# Altium footprint library QFN_Sq_40P_Side_V.PcbLib: 4 footprints
Each footprint in its own frame and in the unit in brackets; x right, y up, seen from the top. Pads: shape width x height; smd on the part's side, far side on the other; paste and mask are expansions set on the pad; w line width, h text height; cw(c..) or ccw(c..) is an arc to the next point about the centre after c.
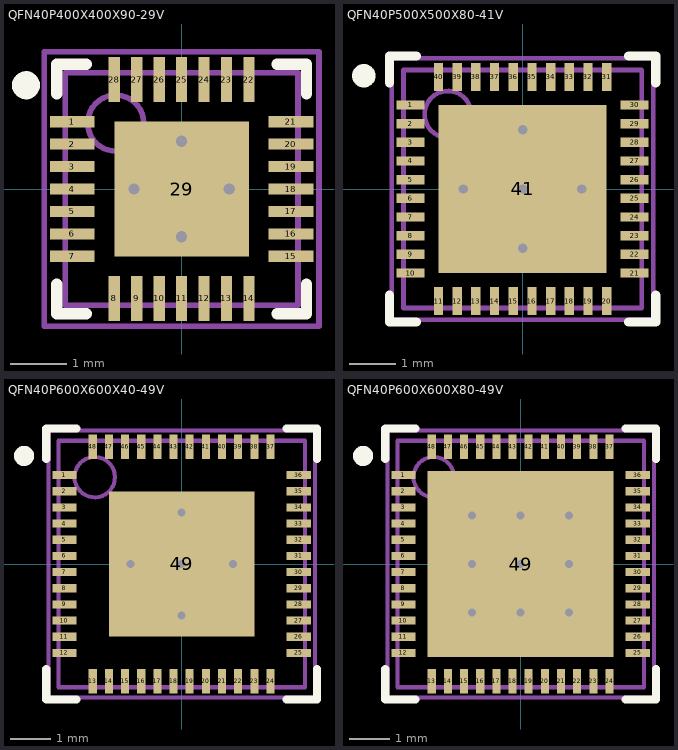
[diagram p0: the footprints below, top view; thin cyan lines are the x and y axes]

## QFN40P400X400X90-29V [mm] "QFN, 28-Leads, Body 4x4 mm, Pitch 0.4mm, Microchip Recommended"
height 0.9
pads (29):
  rect 0.8x0.2 smd: 1(-1.95,1.2) 2(-1.95,0.8) 3(-1.95,0.4) 4(-1.95,0) 5(-1.95,-0.4) 6(-1.95,-0.8) 7(-1.95,-1.2) 15(1.95,-1.2) 16(1.95,-0.8) 17(1.95,-0.4) 18(1.95,0) 19(1.95,0.4) 20(1.95,0.8) 21(1.95,1.2)
  rect 0.2x0.8 smd: 8(-1.2,-1.95) 9(-0.8,-1.95) 10(-0.4,-1.95) 11(0,-1.95) 12(0.4,-1.95) 13(0.8,-1.95) 14(1.2,-1.95) 22(1.2,1.95) 23(0.8,1.95) 24(0.4,1.95) 25(0,1.95) 26(-0.4,1.95) 27(-0.8,1.95) 28(-1.2,1.95)
  rect 2.4x2.4 smd paste-1.2: 29(0,0)
via 0,-0.85 diameter 0.5 hole 0.2
via 0,0.85 diameter 0.5 hole 0.2
via -0.85,0 diameter 0.5 hole 0.2
via 0.85,0 diameter 0.5 hole 0.2
Top Overlay:
  circle w0.25: c-2.775,1.85 r0.125
  lines w0.2: -2.225,-1.7 -2.225,-2.225 -1.7,-2.225 ; -2.225,1.7 -2.225,2.225 -1.7,2.225 ; 1.7,-2.225 2.225,-2.225 2.225,-1.7 ; 1.7,2.225 2.225,2.225 2.225,1.7
Top Paste:
  rectangle: 0.15,0.15 1.1,1.1
  region: -0.15,0.15 -0.15,1.1 -1.1,1.1 -1.1,0.15
  region: -0.15,-0.15 -1.1,-0.15 -1.1,-1.1 -0.15,-1.1
  region: 0.15,-0.15 0.15,-1.1 1.1,-1.1 1.1,-0.15
Mechanical 13:
  circle w0.1: c-1.175,1.175 r0.5
  lines w0.1: -2.075,-2.075 -2.075,2.075 2.075,2.075 2.075,-2.075 -2.075,-2.075
Mechanical 15:
  lines w0.1: -2.45,-2.45 -2.45,2.45 2.45,2.45 2.45,-2.45 -2.45,-2.45 ; -0.5,0 0.5,0 -0.5,0 ; 0,-0.5 0,0.5 0,-0.5
3D body: height 0.9, standoff 0, extent -2.074,-2.074 2.074,2.074

## QFN40P500X500X80-41V [mm] "QFN, 40-Leads, Body 5x5 mm, Pitch 0.4mm, NSC Recommended"
height 0.8
pads (41):
  rect 0.6x0.2 smd paste-0.125 mask+0.051: 1(-2.4,1.8) 2(-2.4,1.4) 3(-2.4,1) 4(-2.4,0.6) 5(-2.4,0.2) 6(-2.4,-0.2) 7(-2.4,-0.6) 8(-2.4,-1) 9(-2.4,-1.4) 10(-2.4,-1.8) 21(2.4,-1.8) 22(2.4,-1.4) 23(2.4,-1) 24(2.4,-0.6) 25(2.4,-0.2) 26(2.4,0.2) 27(2.4,0.6) 28(2.4,1) 29(2.4,1.4) 30(2.4,1.8)
  rect 0.2x0.6 smd paste-0.125 mask+0.051: 11(-1.8,-2.4) 12(-1.4,-2.4) 13(-1,-2.4) 14(-0.6,-2.4) 15(-0.2,-2.4) 16(0.2,-2.4) 17(0.6,-2.4) 18(1,-2.4) 19(1.4,-2.4) 20(1.8,-2.4) 31(1.8,2.4) 32(1.4,2.4) 33(1,2.4) 34(0.6,2.4) 35(0.2,2.4) 36(-0.2,2.4) 37(-0.6,2.4) 38(-1,2.4) 39(-1.4,2.4) 40(-1.8,2.4)
  rect 3.6x3.6 smd paste-1.8 mask+0.051: 41(0,0)
via 0,0 diameter 0.5 hole 0.2
via 0,1.27 diameter 0.5 hole 0.2
via -1.27,0 diameter 0.5 hole 0.2
via 0,-1.27 diameter 0.5 hole 0.2
via 1.27,0 diameter 0.5 hole 0.2
Top Overlay:
  circle w0.25: c-3.4,2.425 r0.125
  lines w0.2: -2.85,-2.275 -2.85,-2.85 -2.275,-2.85 ; -2.85,2.275 -2.85,2.85 -2.275,2.85 ; 2.275,-2.85 2.85,-2.85 2.85,-2.275 ; 2.275,2.85 2.85,2.85 2.85,2.275
Top Paste:
  rectangle: 0.1,-1.6 1.6,-0.1
  region: -0.1,-0.1 -1.6,-0.1 -1.6,-1.6 -0.1,-1.6
  region: -0.1,1.6 -1.6,1.6 -1.6,0.1 -0.1,0.1
  rectangle: 0.1,0.1 1.6,1.6
  region: 1.7,2.9 1.7,2.2 1.9,2.2 1.9,2.9
  region: 1.3,2.9 1.3,2.2 1.5,2.2 1.5,2.9
  region: 0.5,2.9 0.5,2.2 0.7,2.2 0.7,2.9
  region: 0.9,2.9 0.9,2.2 1.1,2.2 1.1,2.9
  region: -1.9,2.9 -1.9,2.2 -1.7,2.2 -1.7,2.9
  region: -1.1,2.9 -1.1,2.2 -0.9,2.2 -0.9,2.9
  region: -1.5,2.9 -1.5,2.2 -1.3,2.2 -1.3,2.9
  region: -0.7,2.9 -0.7,2.2 -0.5,2.2 -0.5,2.9
  region: -0.3,2.9 -0.3,2.2 -0.1,2.2 -0.1,2.9
  region: 0.1,2.9 0.1,2.2 0.3,2.2 0.3,2.9
  region: 0.3,-2.9 0.3,-2.2 0.1,-2.2 0.1,-2.9
  region: -0.1,-2.9 -0.1,-2.2 -0.3,-2.2 -0.3,-2.9
  region: -0.5,-2.9 -0.5,-2.2 -0.7,-2.2 -0.7,-2.9
  region: -1.3,-2.9 -1.3,-2.2 -1.5,-2.2 -1.5,-2.9
  region: -0.9,-2.9 -0.9,-2.2 -1.1,-2.2 -1.1,-2.9
  region: -1.7,-2.9 -1.7,-2.2 -1.9,-2.2 -1.9,-2.9
  region: 1.1,-2.9 1.1,-2.2 0.9,-2.2 0.9,-2.9
  region: 0.7,-2.9 0.7,-2.2 0.5,-2.2 0.5,-2.9
  region: 1.5,-2.9 1.5,-2.2 1.3,-2.2 1.3,-2.9
  region: 1.9,-2.9 1.9,-2.2 1.7,-2.2 1.7,-2.9
  rectangle: -2.9,-1.9 -2.2,-1.7
  rectangle: -2.9,-1.5 -2.2,-1.3
  rectangle: -2.9,-0.7 -2.2,-0.5
  rectangle: -2.9,-1.1 -2.2,-0.9
  rectangle: -2.9,1.7 -2.2,1.9
  rectangle: -2.9,0.9 -2.2,1.1
  rectangle: -2.9,1.3 -2.2,1.5
  rectangle: -2.9,0.5 -2.2,0.7
  rectangle: -2.9,0.1 -2.2,0.3
  rectangle: -2.9,-0.3 -2.2,-0.1
  region: 2.9,-0.1 2.2,-0.1 2.2,-0.3 2.9,-0.3
  region: 2.9,0.3 2.2,0.3 2.2,0.1 2.9,0.1
  region: 2.9,0.7 2.2,0.7 2.2,0.5 2.9,0.5
  region: 2.9,1.5 2.2,1.5 2.2,1.3 2.9,1.3
  region: 2.9,1.1 2.2,1.1 2.2,0.9 2.9,0.9
  region: 2.9,1.9 2.2,1.9 2.2,1.7 2.9,1.7
  region: 2.9,-0.9 2.2,-0.9 2.2,-1.1 2.9,-1.1
  region: 2.9,-0.5 2.2,-0.5 2.2,-0.7 2.9,-0.7
  region: 2.9,-1.3 2.2,-1.3 2.2,-1.5 2.9,-1.5
  region: 2.9,-1.7 2.2,-1.7 2.2,-1.9 2.9,-1.9
Mechanical 13:
  circle w0.1: c-1.6,1.6 r0.5
  lines w0.1: -2.55,-2.55 -2.55,2.55 2.55,2.55 2.55,-2.55 -2.55,-2.55
Mechanical 15:
  lines w0.1: -0.5,0 0.5,0 ; 0,-0.5 0,0.5 ; -2.8,-2.8 2.8,-2.8 2.8,2.8 -2.8,2.8 -2.8,-2.8
3D body: height 0.8, standoff 0, extent -2.55,-2.55 2.55,2.55

## QFN40P600X600X40-49V [mm] "QFN, 48-Leads, Body 6x6 mm, Pitch 0.4mm, NSC Recommended"
height 0.4
pads (49):
  rect 0.6x0.2 smd paste-0.125 mask+0.051: 1(-2.9,2.2) 2(-2.9,1.8) 3(-2.9,1.4) 4(-2.9,1) 5(-2.9,0.6) 6(-2.9,0.2) 7(-2.9,-0.2) 8(-2.9,-0.6) 9(-2.9,-1) 10(-2.9,-1.4) 11(-2.9,-1.8) 12(-2.9,-2.2) 25(2.9,-2.2) 26(2.9,-1.8) 27(2.9,-1.4) 28(2.9,-1) 29(2.9,-0.6) 30(2.9,-0.2) 31(2.9,0.2) 32(2.9,0.6) 33(2.9,1) 34(2.9,1.4) 35(2.9,1.8) 36(2.9,2.2)
  rect 0.2x0.6 smd paste-0.125 mask+0.051: 13(-2.2,-2.9) 14(-1.8,-2.9) 15(-1.4,-2.9) 16(-1,-2.9) 17(-0.6,-2.9) 18(-0.2,-2.9) 19(0.2,-2.9) 20(0.6,-2.9) 21(1,-2.9) 22(1.4,-2.9) 23(1.8,-2.9) 24(2.2,-2.9) 37(2.2,2.9) 38(1.8,2.9) 39(1.4,2.9) 40(1,2.9) 41(0.6,2.9) 42(0.2,2.9) 43(-0.2,2.9) 44(-0.6,2.9) 45(-1,2.9) 46(-1.4,2.9) 47(-1.8,2.9) 48(-2.2,2.9)
  rect 3.6x3.6 smd paste-1.8 mask+0.051: 49(0,0)
via 1.27,0 diameter 0.5 hole 0.2
via 0,-1.27 diameter 0.5 hole 0.2
via -1.27,0 diameter 0.5 hole 0.2
via 0,1.27 diameter 0.5 hole 0.2
via 0,0 diameter 0.5 hole 0.2
Top Overlay:
  circle w0.25: c-3.9,2.675 r0.125
  lines w0.2: -3.35,-2.6 -3.35,-3.35 -2.6,-3.35 ; -3.35,2.6 -3.35,3.35 -2.6,3.35 ; 2.6,-3.35 3.35,-3.35 3.35,-2.6 ; 2.6,3.35 3.35,3.35 3.35,2.6
Top Paste:
  rectangle: 0.1,0.1 1.6,1.6
  region: -0.1,1.6 -1.6,1.6 -1.6,0.1 -0.1,0.1
  region: -0.1,-0.1 -1.6,-0.1 -1.6,-1.6 -0.1,-1.6
  rectangle: 0.1,-1.6 1.6,-0.1
  rectangle: -3.4,2.1 -2.7,2.3
  rectangle: -3.4,1.7 -2.7,1.9
  rectangle: -3.4,1.3 -2.7,1.5
  rectangle: -3.4,0.9 -2.7,1.1
  rectangle: -3.4,0.5 -2.7,0.7
  rectangle: -3.4,0.1 -2.7,0.3
  rectangle: -3.4,-2.3 -2.7,-2.1
  rectangle: -3.4,-1.9 -2.7,-1.7
  rectangle: -3.4,-1.5 -2.7,-1.3
  rectangle: -3.4,-1.1 -2.7,-0.9
  rectangle: -3.4,-0.7 -2.7,-0.5
  rectangle: -3.4,-0.3 -2.7,-0.1
  region: 0.3,-3.4 0.3,-2.7 0.1,-2.7 0.1,-3.4
  region: 0.7,-3.4 0.7,-2.7 0.5,-2.7 0.5,-3.4
  region: 1.1,-3.4 1.1,-2.7 0.9,-2.7 0.9,-3.4
  region: 1.5,-3.4 1.5,-2.7 1.3,-2.7 1.3,-3.4
  region: 1.9,-3.4 1.9,-2.7 1.7,-2.7 1.7,-3.4
  region: 2.3,-3.4 2.3,-2.7 2.1,-2.7 2.1,-3.4
  region: -0.1,-3.4 -0.1,-2.7 -0.3,-2.7 -0.3,-3.4
  region: -0.5,-3.4 -0.5,-2.7 -0.7,-2.7 -0.7,-3.4
  region: -0.9,-3.4 -0.9,-2.7 -1.1,-2.7 -1.1,-3.4
  region: -1.3,-3.4 -1.3,-2.7 -1.5,-2.7 -1.5,-3.4
  region: -1.7,-3.4 -1.7,-2.7 -1.9,-2.7 -1.9,-3.4
  region: -2.1,-3.4 -2.1,-2.7 -2.3,-2.7 -2.3,-3.4
  region: 3.4,0.3 2.7,0.3 2.7,0.1 3.4,0.1
  region: 3.4,0.7 2.7,0.7 2.7,0.5 3.4,0.5
  region: 3.4,1.1 2.7,1.1 2.7,0.9 3.4,0.9
  region: 3.4,1.5 2.7,1.5 2.7,0.1 3.4,0.1
  region: 3.4,1.9 2.7,1.9 2.7,1.7 3.4,1.7
  region: 3.4,2.3 2.7,2.3 2.7,2.1 3.4,2.1
  region: 3.4,-0.1 2.7,-0.1 2.7,-0.3 3.4,-0.3
  region: 3.4,-0.5 2.7,-0.5 2.7,-0.7 3.4,-0.7
  region: 3.4,-0.9 2.7,-0.9 2.7,-1.1 3.4,-1.1
  region: 3.4,-1.3 2.7,-1.3 2.7,-1.5 3.4,-1.5
  region: 3.4,-1.7 2.7,-1.7 2.7,-1.9 3.4,-1.9
  region: 3.4,-2.1 2.7,-2.1 2.7,-2.3 3.4,-2.3
  region: -0.3,3.4 -0.3,2.7 -0.1,2.7 -0.1,3.4
  region: -0.7,3.4 -0.7,2.7 -0.5,2.7 -0.5,3.4
  region: -1.1,3.4 -1.1,2.7 -0.9,2.7 -0.9,3.4
  region: -1.5,3.4 -1.5,2.7 -1.3,2.7 -1.3,3.4
  region: -1.9,3.4 -1.9,2.7 -1.7,2.7 -1.7,3.4
  region: -2.3,3.4 -2.3,2.7 -2.1,2.7 -2.1,3.4
  region: 0.1,3.4 0.1,2.7 0.3,2.7 0.3,3.4
  region: 0.5,3.4 0.5,2.7 0.7,2.7 0.7,3.4
  region: 0.9,3.4 0.9,2.7 1.1,2.7 1.1,3.4
  region: 1.3,3.4 1.3,2.7 1.5,2.7 1.5,3.4
  region: 1.7,3.4 1.7,2.7 1.9,2.7 1.9,3.4
  region: 2.1,3.4 2.1,2.7 2.3,2.7 2.3,3.4
Mechanical 13:
  circle w0.1: c-2.15,2.15 r0.5
  lines w0.1: -3.05,-3.05 3.05,-3.05 3.05,3.05 -3.05,3.05 -3.05,-3.05
Mechanical 15:
  lines w0.1: -0.5,0 0.5,0 ; 0,-0.5 0,0.5 ; -3.3,-3.3 3.3,-3.3 3.3,3.3 -3.3,3.3 -3.3,-3.3
3D body: height 0.4, standoff 0, extent -3.049,-3.049 3.049,3.049

## QFN40P600X600X80-49V [mm] "QFN, 48-Leads, Body 6x6 mm, Pitch 0.4mm, NSC Recommended"
height 0.8
pads (49):
  rect 0.6x0.2 smd paste-0.125 mask+0.051: 1(-2.9,2.2) 2(-2.9,1.8) 3(-2.9,1.4) 4(-2.9,1) 5(-2.9,0.6) 6(-2.9,0.2) 7(-2.9,-0.2) 8(-2.9,-0.6) 9(-2.9,-1) 10(-2.9,-1.4) 11(-2.9,-1.8) 12(-2.9,-2.2) 25(2.9,-2.2) 26(2.9,-1.8) 27(2.9,-1.4) 28(2.9,-1) 29(2.9,-0.6) 30(2.9,-0.2) 31(2.9,0.2) 32(2.9,0.6) 33(2.9,1) 34(2.9,1.4) 35(2.9,1.8) 36(2.9,2.2)
  rect 0.2x0.6 smd paste-0.125 mask+0.051: 13(-2.2,-2.9) 14(-1.8,-2.9) 15(-1.4,-2.9) 16(-1,-2.9) 17(-0.6,-2.9) 18(-0.2,-2.9) 19(0.2,-2.9) 20(0.6,-2.9) 21(1,-2.9) 22(1.4,-2.9) 23(1.8,-2.9) 24(2.2,-2.9) 37(2.2,2.9) 38(1.8,2.9) 39(1.4,2.9) 40(1,2.9) 41(0.6,2.9) 42(0.2,2.9) 43(-0.2,2.9) 44(-0.6,2.9) 45(-1,2.9) 46(-1.4,2.9) 47(-1.8,2.9) 48(-2.2,2.9)
  rect 4.6x4.6 smd paste-2.3 mask+0.051: 49(0,0)
via 1.2,0 diameter 0.5 hole 0.2
via -1.2,0 diameter 0.5 hole 0.2
via 0,0 diameter 0.5 hole 0.2
via 0,-1.2 diameter 0.5 hole 0.2
via -1.2,-1.2 diameter 0.5 hole 0.2
via 1.2,-1.2 diameter 0.5 hole 0.2
via 0,1.2 diameter 0.5 hole 0.2
via -1.2,1.2 diameter 0.5 hole 0.2
via 1.2,1.2 diameter 0.5 hole 0.2
Top Overlay:
  circle w0.25: c-3.9,2.675 r0.125
  lines w0.2: -3.35,-2.6 -3.35,-3.35 -2.6,-3.35 ; -3.35,2.6 -3.35,3.35 -2.6,3.35 ; 2.6,-3.35 3.35,-3.35 3.35,-2.6 ; 2.6,3.35 3.35,3.35 3.35,2.6
Top Paste:
  rectangle: 0.1,0.1 1.1,1.1
  rectangle: 1.3,1.3 2.3,2.3
  rectangle: 1.3,0.1 2.3,1.1
  rectangle: 0.1,1.3 1.1,2.3
  region: -0.1,2.3 -1.1,2.3 -1.1,1.3 -0.1,1.3
  region: -1.3,1.1 -2.3,1.1 -2.3,0.1 -1.3,0.1
  region: -1.3,2.3 -2.3,2.3 -2.3,1.3 -1.3,1.3
  region: -0.1,1.1 -1.1,1.1 -1.1,0.1 -0.1,0.1
  region: -0.1,-1.3 -1.1,-1.3 -1.1,-2.3 -0.1,-2.3
  region: -1.3,-0.1 -2.3,-0.1 -2.3,-1.1 -1.3,-1.1
  region: -1.3,-1.3 -2.3,-1.3 -2.3,-2.3 -1.3,-2.3
  region: -0.1,-0.1 -1.1,-0.1 -1.1,-1.1 -0.1,-1.1
  rectangle: 0.1,-2.3 1.1,-1.3
  rectangle: 1.3,-1.1 2.3,-0.1
  rectangle: 1.3,-2.3 2.3,-1.3
  rectangle: 0.1,-1.1 1.1,-0.1
  region: 2.1,3.4 2.1,2.7 2.3,2.7 2.3,3.4
  region: 1.7,3.4 1.7,2.7 1.9,2.7 1.9,3.4
  region: 1.3,3.4 1.3,2.7 1.5,2.7 1.5,3.4
  region: 0.9,3.4 0.9,2.7 1.1,2.7 1.1,3.4
  region: 0.5,3.4 0.5,2.7 0.7,2.7 0.7,3.4
  region: 0.1,3.4 0.1,2.7 0.3,2.7 0.3,3.4
  region: -2.3,3.4 -2.3,2.7 -2.1,2.7 -2.1,3.4
  region: -1.9,3.4 -1.9,2.7 -1.7,2.7 -1.7,3.4
  region: -1.5,3.4 -1.5,2.7 -1.3,2.7 -1.3,3.4
  region: -1.1,3.4 -1.1,2.7 -0.9,2.7 -0.9,3.4
  region: -0.7,3.4 -0.7,2.7 -0.5,2.7 -0.5,3.4
  region: -0.3,3.4 -0.3,2.7 -0.1,2.7 -0.1,3.4
  region: 3.4,-2.1 2.7,-2.1 2.7,-2.3 3.4,-2.3
  region: 3.4,-1.7 2.7,-1.7 2.7,-1.9 3.4,-1.9
  region: 3.4,-1.3 2.7,-1.3 2.7,-1.5 3.4,-1.5
  region: 3.4,-0.9 2.7,-0.9 2.7,-1.1 3.4,-1.1
  region: 3.4,-0.5 2.7,-0.5 2.7,-0.7 3.4,-0.7
  region: 3.4,-0.1 2.7,-0.1 2.7,-0.3 3.4,-0.3
  region: 3.4,2.3 2.7,2.3 2.7,2.1 3.4,2.1
  region: 3.4,1.9 2.7,1.9 2.7,1.7 3.4,1.7
  region: 3.4,1.5 2.7,1.5 2.7,1.3 3.4,1.3
  region: 3.4,1.1 2.7,1.1 2.7,0.9 3.4,0.9
  region: 3.4,0.7 2.7,0.7 2.7,0.5 3.4,0.5
  region: 3.4,0.3 2.7,0.3 2.7,0.1 3.4,0.1
  region: -2.1,-3.4 -2.1,-2.7 -2.3,-2.7 -2.3,-3.4
  region: -1.7,-3.4 -1.7,-2.7 -1.9,-2.7 -1.9,-3.4
  region: -1.3,-3.4 -1.3,-2.7 -1.5,-2.7 -1.5,-3.4
  region: -0.9,-3.4 -0.9,-2.7 -1.1,-2.7 -1.1,-3.4
  region: -0.5,-3.4 -0.5,-2.7 -0.7,-2.7 -0.7,-3.4
  region: -0.1,-3.4 -0.1,-2.7 -0.3,-2.7 -0.3,-3.4
  region: 2.3,-3.4 2.3,-2.7 2.1,-2.7 2.1,-3.4
  region: 1.9,-3.4 1.9,-2.7 1.7,-2.7 1.7,-3.4
  region: 1.5,-3.4 1.5,-2.7 1.3,-2.7 1.3,-3.4
  region: 1.1,-3.4 1.1,-2.7 0.9,-2.7 0.9,-3.4
  region: 0.7,-3.4 0.7,-2.7 0.5,-2.7 0.5,-3.4
  region: 0.3,-3.4 0.3,-2.7 0.1,-2.7 0.1,-3.4
  rectangle: -3.4,-0.3 -2.7,-0.1
  rectangle: -3.4,-0.7 -2.7,-0.5
  rectangle: -3.4,-1.1 -2.7,-0.9
  rectangle: -3.4,-1.5 -2.7,-1.3
  rectangle: -3.4,-1.9 -2.7,-1.7
  rectangle: -3.4,-2.3 -2.7,-2.1
  rectangle: -3.4,0.1 -2.7,0.3
  rectangle: -3.4,0.5 -2.7,0.7
  rectangle: -3.4,0.9 -2.7,1.1
  rectangle: -3.4,1.3 -2.7,1.5
  rectangle: -3.4,1.7 -2.7,1.9
  rectangle: -3.4,2.1 -2.7,2.3
Mechanical 13:
  circle w0.1: c-2.15,2.15 r0.5
  lines w0.1: -3.05,-3.05 -3.05,3.05 3.05,3.05 3.05,-3.05 -3.05,-3.05
Mechanical 15:
  lines w0.1: -0.5,0 0.5,0 ; 0,-0.5 0,0.5 ; -3.3,-3.3 -3.3,3.3 3.3,3.3 3.3,-3.3 -3.3,-3.3
3D body: height 0.8, standoff 0, extent -3.049,-3.049 3.049,3.049